# Altium footprint library PCB_HUD_LED_v2.1.PcbLib: 24 footprints (part 1 of 2)
Each footprint in its own frame and in the unit in brackets; x right, y up, seen from the top. Pads: shape width x height; smd on the part's side, far side on the other; paste and mask are expansions set on the pad; w line width, h text height; cw(c..) or ccw(c..) is an arc to the next point about the centre after c.
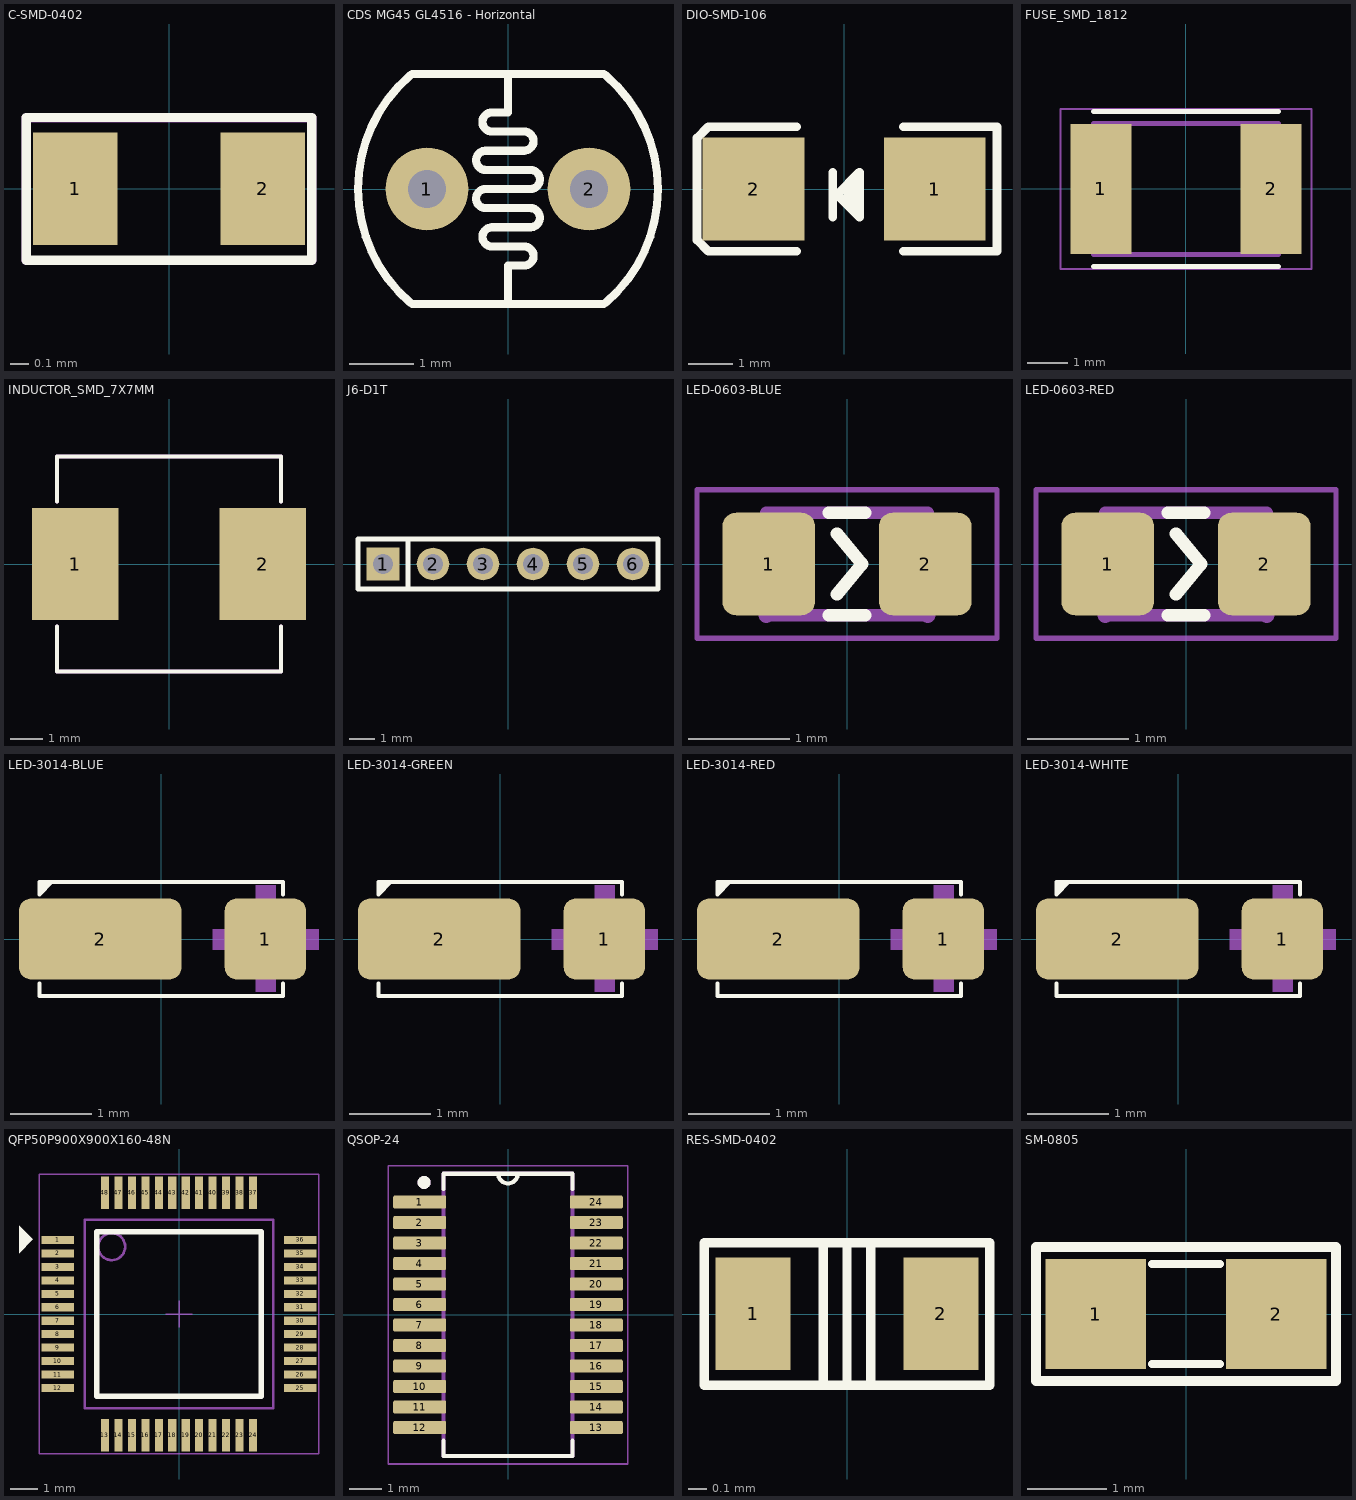
[diagram p0: the footprints below, top view; thin cyan lines are the x and y axes]

## C-SMD-0402 [mm]
pads (2):
  rect 0.45x0.6 smd: 1(-0.5,0) 2(0.5,0)
Top Overlay:
  lines w0.05: -0.762,-0.381 0.762,-0.381 0.762,0.381 0,0.381 -0.762,0.381 -0.762,-0.381
Mechanical 15:
  lines w0.05: -0.762,-0.381 0.762,-0.381 0.762,0.381 -0.762,0.381 -0.762,-0.381
3D body "C0402.stp": height 0.52, standoff 0.02, extent -0.5,-0.25 0.5,0.25

## CDS MG45 GL4516 - Horizontal [mm]
pads (2):
  round 1.3 hole 0.6 mask+0.102: 1(-1.27,0) 2(1.27,0)
Top Overlay:
  lines w0.127: -1.533,-1.781 cw(c0,0) -1.529,1.784 ; -1.5,-1.8 1.5,-1.8 ; -1.5,1.8 1.5,1.8 ; 0,-1.8 0,-1.2 0.25,-1.2 ccw(c0.25,-1.05) 0.25,-0.9 -0.25,-0.9 cw(c-0.25,-0.75) -0.25,-0.6 0.35,-0.6 ccw(c0.35,-0.45) 0.35,-0.3 -0.35,-0.3 cw(c-0.35,-0.15) -0.35,0 0,0 0.35,0 ccw(c0.35,0.15) 0.35,0.3 -0.35,0.3 cw(c-0.35,0.45) -0.35,0.6 0.25,0.6 ccw(c0.25,0.75) 0.25,0.9 -0.25,0.9 cw(c-0.25,1.05) -0.25,1.2 0,1.2 0,1.8 ; 1.529,1.784 cw(c0,0) 1.533,-1.781
3D body "LDR_2.54.step": height 4, standoff -5.5, extent -2.318,-1.8 2.318,1.8

## DIO-SMD-106 [mil]
pads (2):
  rect 90x90.55 smd: 1(80,0) 2(-80,0)
Top Overlay:
  lines w7.87: -42.24,-55 -120,-55 -130,-45 -130,45 -120,55 -42.24,55 ; -10.12,-24.68 -10.12,14.69 ; 3.66,-10.91 3.66,0.91 ; 9.57,-16.81 9.57,6.81 ; 52.24,-55 135,-55 135,55 52.24,55 ; -6.18,-5 13.5,14.69 13.5,-24.68 -6.18,-5
Mechanical 1:
  lines w3.94: -2.87,0 12.87,0 ; 5,-7.87 5,7.87
3D body "User Library-DO-214Aa SMA.step": height 94.69, standoff 0, extent -98.7,-50.27 106.03,52.09

## FUSE_SMD_1812 [mm]
pads (2):
  rect 1.5x3.2 smd: 1(-2.1,0) 2(2.1,0)
Top Overlay:
  lines w0.127: -2.275,-1.913 2.275,-1.913 ; -2.275,1.913 2.275,1.913
Mechanical 13:
  lines w0.127: -2.275,-1.62 2.275,-1.62 2.275,1.62 -2.275,1.62 -2.275,-1.62
Mechanical 15:
  lines w0.05: -3.1,-1.977 -3.1,1.977 3.1,1.977 3.1,-1.977 -3.1,-1.977
3D body "step_temp.STEP": height 0.85, standoff 0, extent -2.275,-1.62 2.275,1.62

## INDUCTOR_SMD_7X7MM [mm]
pads (2):
  rect 2.7x3.505 smd: 1(-2.929,0) 2(2.929,0)
Top Overlay:
  lines w0.127: -3.5,-1.95 -3.5,-3.35 3.5,-3.35 3.5,-1.95 ; -3.5,1.95 -3.5,3.35 3.5,3.35 3.5,1.95
Mechanical 13:
  lines w0.127: -3.5,-1.95 -3.5,-3.35 3.5,-3.35 3.5,-1.95 ; -3.5,1.95 -3.5,3.35 3.5,3.35 3.5,1.95
3D body "Inductor_SMD_AMPLF_0630.STEP": height 3.01, standoff 0, extent -3.65,-3.35 3.65,3.35

## J6-D1T [mm]
pads (6):
  rect 1.3x1.3 hole 0.8: 1(-5,0)
  round 1.3 hole 0.8: 2(-3,0) 3(-1,0) 4(1,0) 5(3,0) 6(5,0)
Top Overlay:
  lines w0.2: -4,-1 -4,1 ; -6,-1 -6,1 6,1 6,-1 -6,-1
3D body "62000611121.stp": height 6.01, standoff -2.79, extent -6,-1 6,1

## LED-0603-BLUE [mm]
pads (2):
  rrect30% 0.92x1.016 smd: 1(-0.775,0) 2(0.775,0)
Top Overlay:
  lines w0.127: -0.178,-0.508 0.178,-0.508 ; -0.178,0.508 0.178,0.508 ; -0.1,-0.3 0.15,0 -0.1,0.3
Mechanical 13:
  lines w0.127: -0.8,-0.508 0.8,-0.508 ; -0.8,0.508 0.8,0.508
  lines w0.152: -0.8,-0.508 -0.8,0.4 ; 0.8,-0.508 0.8,0.4
Mechanical 15:
  lines w0.05: -1.485,-0.735 1.485,-0.735 1.485,0.735 -1.485,0.735 -1.485,-0.735
3D body "SMD_0603LED_BLUE.STEP": height 0.87, standoff -0.01, extent -0.808,-0.5 0.808,0.5

## LED-0603-RED [mm]
pads (2):
  rrect30% 0.92x1.016 smd: 1(-0.775,0) 2(0.775,0)
Top Overlay:
  lines w0.127: -0.178,-0.508 0.178,-0.508 ; -0.178,0.508 0.178,0.508 ; -0.1,-0.3 0.15,0 -0.1,0.3
Mechanical 13:
  lines w0.127: -0.8,-0.508 0.8,-0.508 ; -0.8,0.508 0.8,0.508
  lines w0.152: -0.8,-0.508 -0.8,0.4 ; 0.8,-0.508 0.8,0.4
Mechanical 15:
  lines w0.05: -1.485,-0.735 1.485,-0.735 1.485,0.735 -1.485,0.735 -1.485,-0.735
3D body "SMD_0603LED_RED.STEP": height 0.87, standoff -0.01, extent -0.808,-0.5 0.808,0.5

## LED-3014-BLUE [mm]
pads (2):
  rrect30% 1x1 smd paste+0 mask+0.051: 1(1.28,0)
  rrect30% 2x1 smd paste+0 mask+0.051: 2(-0.75,0)
Top Overlay:
  region: -1.5,0.7 -1.5,0.55 -1.35,0.7
  lines w0.05: -1.5,-0.55 -1.5,-0.7 1.5,-0.7 1.5,-0.55 ; -1.35,0.7 -1.5,0.55 -1.5,0.7 1.5,0.7 1.5,0.55
Mechanical 15:
  region: -1.399,-0.13 -1.399,0.12 -0.089,0.12 -0.089,-0.13
  region: 1.41,-0.649 1.16,-0.649 1.16,0.661 1.41,0.661
  region: 0.631,-0.13 0.631,0.12 1.941,0.12 1.941,-0.13
3D body "MP-3014-1100-50-80_blue.step": height 0.52, standoff 0, extent -1.5,-0.7 1.5,0.7

## LED-3014-GREEN [mm]
pads (2):
  rrect30% 1x1 smd paste+0 mask+0.051: 1(1.28,0)
  rrect30% 2x1 smd paste+0 mask+0.051: 2(-0.75,0)
Top Overlay:
  region: -1.5,0.7 -1.5,0.55 -1.35,0.7
  lines w0.05: -1.5,-0.55 -1.5,-0.7 1.5,-0.7 1.5,-0.55 ; -1.35,0.7 -1.5,0.55 -1.5,0.7 1.5,0.7 1.5,0.55
Mechanical 15:
  region: 0.631,-0.13 0.631,0.12 1.941,0.12 1.941,-0.13
  region: 1.41,-0.649 1.16,-0.649 1.16,0.661 1.41,0.661
  region: -1.399,-0.13 -1.399,0.12 -0.089,0.12 -0.089,-0.13
3D body "MP-3014-1100-50-80_green.step": height 0.52, standoff 0, extent -1.5,-0.7 1.5,0.7

## LED-3014-RED [mm]
pads (2):
  rrect30% 1x1 smd paste+0 mask+0.051: 1(1.28,0)
  rrect30% 2x1 smd paste+0 mask+0.051: 2(-0.75,0)
Top Overlay:
  region: -1.5,0.7 -1.5,0.55 -1.35,0.7
  lines w0.05: -1.5,-0.55 -1.5,-0.7 1.5,-0.7 1.5,-0.55 ; -1.35,0.7 -1.5,0.55 -1.5,0.7 1.5,0.7 1.5,0.55
Mechanical 15:
  region: 0.631,-0.13 0.631,0.12 1.941,0.12 1.941,-0.13
  region: 1.41,-0.649 1.16,-0.649 1.16,0.661 1.41,0.661
  region: -1.399,-0.13 -1.399,0.12 -0.089,0.12 -0.089,-0.13
3D body "MP-3014-1100-50-80_red.step": height 0.52, standoff 0, extent -1.5,-0.7 1.5,0.7

## LED-3014-WHITE [mm]
pads (2):
  rrect30% 1x1 smd paste+0 mask+0.051: 1(1.28,0)
  rrect30% 2x1 smd paste+0 mask+0.051: 2(-0.75,0)
Top Overlay:
  region: -1.5,0.7 -1.5,0.55 -1.35,0.7
  lines w0.05: -1.5,-0.55 -1.5,-0.7 1.5,-0.7 1.5,-0.55 ; -1.35,0.7 -1.5,0.55 -1.5,0.7 1.5,0.7 1.5,0.55
Mechanical 15:
  region: 0.631,-0.13 0.631,0.12 1.941,0.12 1.941,-0.13
  region: 1.41,-0.649 1.16,-0.649 1.16,0.661 1.41,0.661
  region: -1.399,-0.13 -1.399,0.12 -0.089,0.12 -0.089,-0.13
3D body "MP-3014-1100-50-80--3DModel-STEP-483804.STEP": height 0.52, standoff 0, extent -1.5,-0.7 1.5,0.7

## QFP50P900X900X160-48N [mm]
pads (48):
  rect 1.2x0.3 smd: 1(-4.5,2.75) 2(-4.5,2.25) 3(-4.5,1.75) 4(-4.5,1.25) 5(-4.5,0.75) 6(-4.5,0.25) 7(-4.5,-0.25) 8(-4.5,-0.75) 9(-4.5,-1.25) 10(-4.5,-1.75) 11(-4.5,-2.25) 12(-4.5,-2.75) 25(4.5,-2.75) 26(4.5,-2.25) 27(4.5,-1.75) 28(4.5,-1.25) 29(4.5,-0.75) 30(4.5,-0.25) 31(4.5,0.25) 32(4.5,0.75) 33(4.5,1.25) 34(4.5,1.75) 35(4.5,2.25) 36(4.5,2.75)
  rect 0.3x1.2 smd: 13(-2.75,-4.5) 14(-2.25,-4.5) 15(-1.75,-4.5) 16(-1.25,-4.5) 17(-0.75,-4.5) 18(-0.25,-4.5) 19(0.25,-4.5) 20(0.75,-4.5) 21(1.25,-4.5) 22(1.75,-4.5) 23(2.25,-4.5) 24(2.75,-4.5) 37(2.75,4.5) 38(2.25,4.5) 39(1.75,4.5) 40(1.25,4.5) 41(0.75,4.5) 42(0.25,4.5) 43(-0.25,4.5) 44(-0.75,4.5) 45(-1.25,4.5) 46(-1.75,4.5) 47(-2.25,4.5) 48(-2.75,4.5)
Top Overlay:
  region: -5.944,3.277 -5.436,2.769 -5.944,2.261
  lines w0.2: -3.05,-3.05 3.05,-3.05 3.05,3.05 -3.05,3.05 -3.05,-3.05
Mechanical 13:
  circle w0.1: c-2.5,2.5 r0.5
  lines w0.1: -3.5,-3.5 3.5,-3.5 3.5,3.5 -3.5,3.5 -3.5,-3.5
Mechanical 15:
  lines w0.001: -3.5,-3.5 3.5,-3.5 3.5,3.5 -3.5,3.5 -3.5,-3.5
  lines w0.05: -0.5,0 0.5,0 ; 0,-0.5 0,0.5 ; -5.2,-5.2 5.2,-5.2 5.2,5.2 -5.2,5.2 -5.2,-5.2
3D body "STM32F103C8T6--3DModel-STEP-510211.STEP": height 1.6, standoff 0, extent -4.5,-4.5 4.5,4.5

## QSOP-24 [mm]
pads (24):
  rrect25% 1.64x0.41 smd: 1(-2.735,3.492) 2(-2.735,2.857) 3(-2.735,2.222) 4(-2.735,1.587) 5(-2.735,0.953) 6(-2.735,0.318) 7(-2.735,-0.318) 8(-2.735,-0.953) 9(-2.735,-1.587) 10(-2.735,-2.222) 11(-2.735,-2.857) 12(-2.735,-3.492) 13(2.735,-3.492) 14(2.735,-2.857) 15(2.735,-2.222) 16(2.735,-1.587) 17(2.735,-0.953) 18(2.735,-0.318) 19(2.735,0.318) 20(2.735,0.953) 21(2.735,1.587) 22(2.735,2.222) 23(2.735,2.857) 24(2.735,3.492)
Top Overlay:
  circle w0.2: c-2.6,4.1 r0.1
  lines w0.127: -1.995,-3.9 -1.995,-4.37 1.995,-4.37 1.995,-3.9 ; -1.995,3.9 -1.995,4.37 1.995,4.37 1.995,3.9 ; -0.301,4.37 ccw(c0,4.37) 0.301,4.37
Mechanical 13:
  circle w0.2: c-2.6,4.1 r0.1
  lines w0.127: -1.995,-4.37 1.995,-4.37 1.995,4.37 -1.995,4.37 -1.995,-4.37
Mechanical 15:
  lines w0.05: -3.705,-4.62 3.705,-4.62 3.705,4.62 -3.705,4.62 -3.705,-4.62
3D body "step_temp.STEP": height 1.75, standoff 0, extent -3.01,-4.325 3.01,4.325

## RES-SMD-0402 [mm]
pads (2):
  rect 0.4x0.6 smd: 1(-0.5,0) 2(0.5,0)
Top Overlay:
  lines w0.05: -0.127,0.381 -0.127,-0.381 0,-0.381 ; 0,-0.381 0.127,-0.381 0.127,0.381 0,0.381 ; 0,-0.381 0,0.381 ; 0,0.381 0.762,0.381 0.762,-0.381 -0.762,-0.381 -0.762,0.381 0,0.381
3D body "User Library-SMD RESISTOR-1.step": height 0.35, standoff -0.01, extent -0.5,-0.25 0.5,0.25

## SM-0805 [mil]
pads (2):
  rect 50x55 smd: 1(-45,0) 2(45,0)
Top Overlay:
  lines w4: -17,-25 17,-25 ; -17,25 17,25
  lines w5: -74.8,-33.46 74.8,-33.46 74.8,33.46 -74.8,33.46 -74.8,-33.46
3D body "SW3dPS-smt_resistor_packages.STEP": height 24.02, standoff -0.39, extent -39.76,-27 39.77,23